# EAGLE library part MAX5467 (library maxim)
1-Wire Digital Potentiometer DALLAS Semiconductor; http://www.maxim-ic.com/
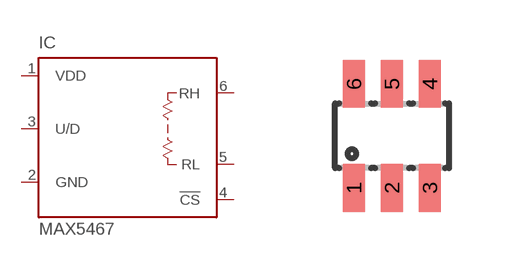
[diagram p3: symbol with the pads of SOT23-6L; footprint SOT23-6L]

Designator prefix IC

## MAX5467  [SOT23-6L]
1  VDD  pwr
2  GND  pwr
3  U/D  in
4  !CS  in
5  RL  pas
6  RH  pas

## Footprint SOT23-6L (pad centres in mm)
Small Outline Transistor
smd 0.55 x 1.2: 1 -0.95,-1.3; 2 0,-1.3; 3 0.95,-1.3; 4 0.95,1.3; 5 0,1.3; 6 -0.95,1.3